# Altium footprint library 1206 Capacitor.PcbLib: 1 footprints
Each footprint in its own frame and in the unit in brackets; x right, y up, seen from the top. Pads: shape width x height; smd on the part's side, far side on the other; paste and mask are expansions set on the pad; w line width, h text height; cw(c..) or ccw(c..) is an arc to the next point about the centre after c.
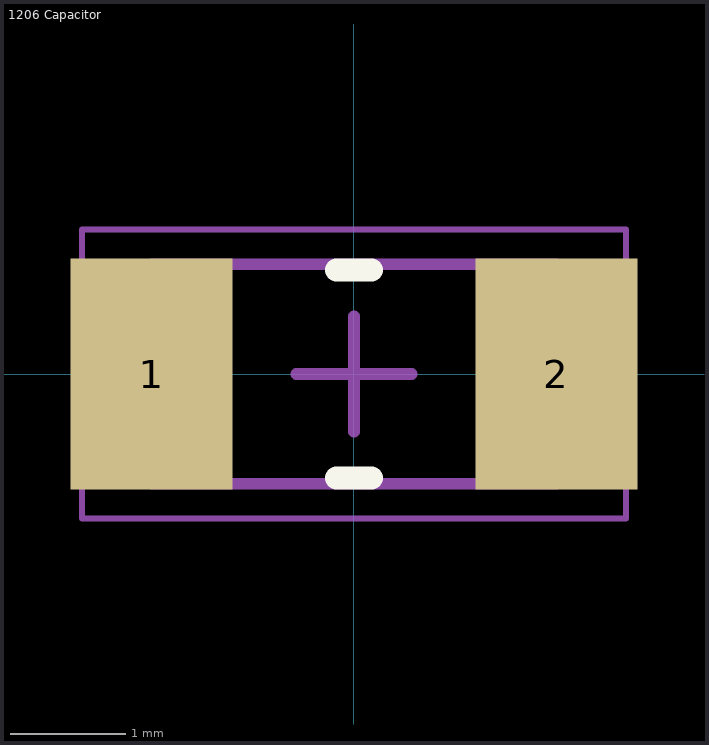
[diagram p0: the footprint, top view; thin cyan lines are the x and y axes]

## 1206 Capacitor [mm] "Chip Capacitor, 2-Leads, Body 3.20x1.60mm, IPC Medium Density"
height 1.9
pads (2):
  rect 1.4x2 smd: 1(-1.75,0) 2(1.75,0)
Top Overlay:
  lines w0.2: -0.15,-0.9 0.15,-0.9 ; -0.15,0.9 0.15,0.9
Mechanical 13:
  lines w0.1: -1.75,-0.95 1.75,-0.95 1.75,0.95 -1.75,0.95 -1.75,-0.95
Mechanical 15:
  lines w0.05: -2.35,-1.25 2.35,-1.25 2.35,1.25 -2.35,1.25 -2.35,-1.25
  lines w0.1: -0.5,0 0.5,0 ; 0,-0.5 0,0.5
3D body: height 1.9, standoff 0, extent 1.15,-0.95 1.75,0.95
3D body: height 1.9, standoff 0, extent -1.75,-0.95 -1.15,0.95
3D body: height 1.9, standoff 0, extent -1.15,-0.95 1.15,0.95